# Altium footprint library PcbLib1.PcbLib: 202 footprints (part 7 of 13)
Each footprint in its own frame and in the unit in brackets; x right, y up, seen from the top. Pads: shape width x height; smd on the part's side, far side on the other; paste and mask are expansions set on the pad; w line width, h text height; cw(c..) or ccw(c..) is an arc to the next point about the centre after c.
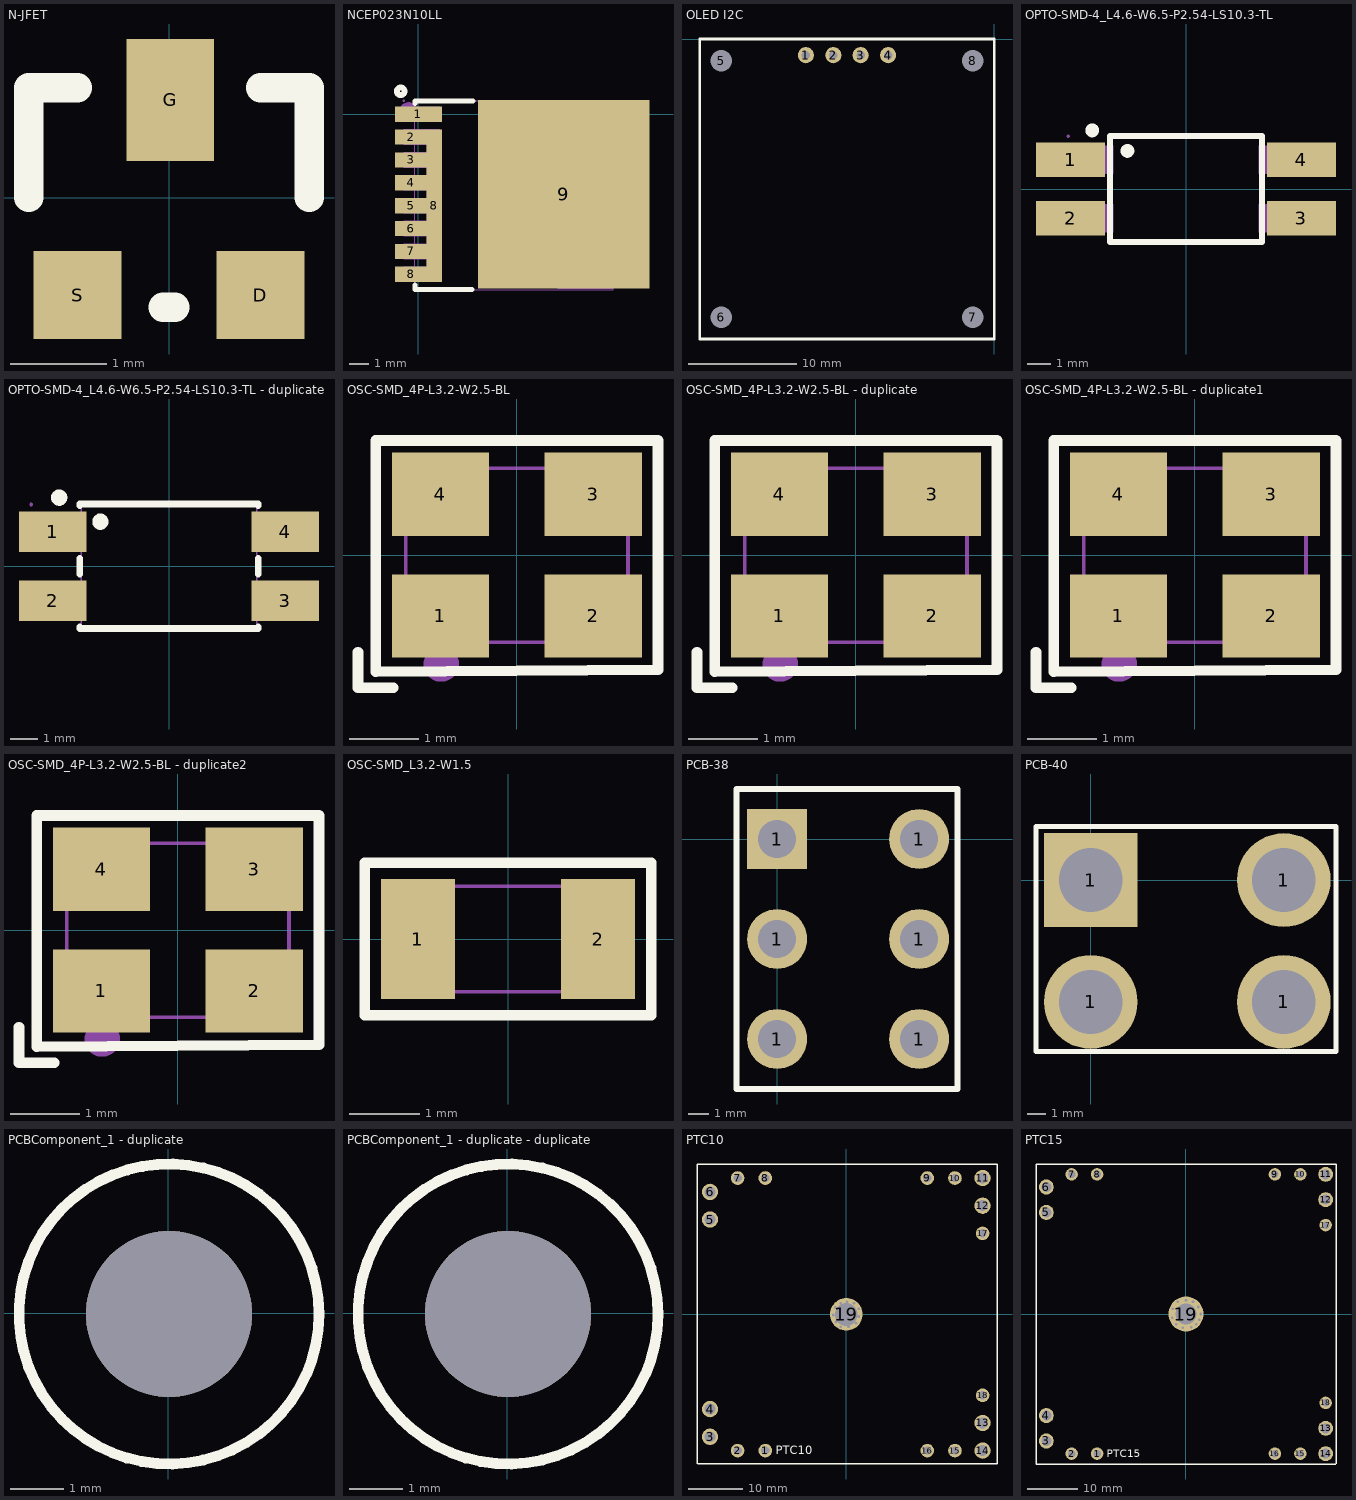
[diagram p6: the footprints below, top view; thin cyan lines are the x and y axes]

## N-JFET [mil]
pads (3):
  rect 36x36 smd: D(37.5,-40) S(-37.5,-40)
  rect 36x50 smd: G(0.5,40)
Top Overlay:
  lines w12: -57.5,0 -57.5,45 -37.5,45 ; -2.5,-45 2.5,-45 ; 37.5,45 57.5,45 57.5,0

## NCEP023N10LL [mm]
pads (10):
  rect 2.463x0.8 smd mask+0.051: 1(0,0)
  rect 1.7x0.8 smd mask+0.051: 2(-0.38,-1.2) 3(-0.38,-2.4) 4(-0.38,-3.6) 5(-0.38,-4.8) 6(-0.38,-6) 7(-0.38,-7.2) 8(-0.38,-8.4)
  rect 0.8x8 smd mask+0.051: 8(0.832,-4.8)
  rect 9x9.9 smd mask+0.051: 9(7.619,-4.2)
Top Overlay:
  circle w0.3: c-0.93,1.2 r0.2
  lines w0.254: -0.18,-8.95 -0.18,-9.2 2.82,-9.2 ; -0.18,0.55 -0.18,0.7 2.87,0.7
Top Paste:
  region: -1.23,-0.8 1.231,-0.8 1.231,-8.8 -1.23,-8.8 -1.23,-8 0.433,-8 0.433,-7.6 -1.23,-7.6 -1.23,-6.8 0.431,-6.8 0.431,-6.4 -1.23,-6.4 -1.23,-5.6 0.433,-5.6 0.433,-5.2 -1.23,-5.2 -1.23,-4.401 -1.23,-4.4 0.433,-4.4 0.433,-4 -1.229,-4 -1.23,-3.999 -1.23,-3.2 0.433,-3.2 0.433,-2.8 -1.23,-2.8 -1.23,-2 0.433,-2 0.434,-2.001 0.434,-1.602 0.431,-1.6 -1.23,-1.6
  region: 12.12,0.75 12.12,-9.15 3.12,-9.15 3.12,0.75
  region: -1.23,0.4 1.22,0.4 1.22,-0.4 -1.23,-0.4
Mechanical 6:
  circle w0.5: c-0.51,0.126 r0.25
Mechanical 15:
  region: 10.91,-9.1 10.91,-7.95 10.61,-7.95 10.61,-4.85 10.91,-4.85 10.91,-3.55 10.61,-3.55 10.61,-0.45 10.91,-0.45 10.91,0.7 7.31,0.7 7.31,0.35 4.01,0.35 4.01,-8.75 7.31,-8.75 7.31,-9.15 10.21,-9.15 10.21,-9.1
  region: 0.432,-0.8 1.132,-0.8 1.132,-8.8 0.432,-8.8
  region: -0.768,-1.6 -0.768,-0.8 0.432,-0.8 0.432,-1.6
  region: -0.768,-2.8 -0.768,-2 0.432,-2 0.432,-2.8
  region: -0.768,-5.2 -0.768,-4.4 0.432,-4.4 0.432,-5.2
  region: -0.768,-4 -0.768,-3.2 0.432,-3.2 0.432,-4
  region: -0.768,-6.4 -0.768,-5.6 0.432,-5.6 0.432,-6.4
  region: -0.768,-7.6 -0.768,-6.8 0.432,-6.8 0.432,-7.6
  region: -0.768,-8.8 -0.768,-8 0.432,-8 0.432,-8.8
  region: -0.768,-0.4 -0.768,0.4 1.132,0.4 1.132,-0.4
  region: -0.708,0.7 -0.708,0.725 -0.744,0.76 -0.793,0.76 -0.828,0.725 -0.828,0.7 -0.828,0.675 -0.793,0.64 -0.744,0.64 -0.708,0.675
  lines w0.051: -0.18,-9.205 -0.18,0.696 10.22,0.696 10.22,-9.205 -0.18,-9.205

## OLED I2C [mm]
height 13
pads (8):
  round 1.5 hole 0.8: 1(-17.46,-1.5) 2(-14.92,-1.5) 3(-12.38,-1.5) 4(-9.84,-1.5)
  round 1.5 hole 2: 5(-25.3,-2) 6(-25.3,-25.8) 7(-2,-25.8) 8(-2,-2)
Top Overlay:
  lines w0.254: -27.3,-27.8 -27.3,0 0,0 0,-27.8 -27.3,-27.8

## OPTO-SMD-4_L4.6-W6.5-P2.54-LS10.3-TL [mm]
pads (4):
  rect 3x1.5 smd: 1(-5,1.27) 2(-5,-1.27) 3(5,-1.27) 4(5,1.27)
Top Overlay:
  circle w0.3: c-2.54,1.651 r0.15
  circle w0.3: c-4.064,2.54 r0.15
  lines w0.254: -3.3,-2.3 -3.3,2.3 3.3,2.3 3.3,-2.3 -3.3,-2.3
Mechanical 6:
  circle w0.6: c-4.572,1.27 r0.3
Mechanical 15:
  region: -3.15,-0.67 -3.15,-1.87 -4.11,-1.87 -4.11,-0.67
  region: -3.15,1.87 -3.15,0.67 -4.11,0.67 -4.11,1.87
  region: 3.15,-1.87 3.15,-0.67 4.11,-0.67 4.11,-1.87
  region: -4.1,-0.67 -4.1,-1.87 -5.1,-1.87 -5.1,-0.67
  region: -4.1,1.87 -4.1,0.67 -5.1,0.67 -5.1,1.87
  region: 3.15,0.67 3.15,1.87 4.11,1.87 4.11,0.67
  region: 4.1,0.67 4.1,1.87 5.1,1.87 5.1,0.67
  region: 4.1,-1.87 4.1,-0.67 5.1,-0.67 5.1,-1.87
  region: -5.04,2.29 -5.04,2.315 -5.075,2.35 -5.125,2.35 -5.16,2.315 -5.16,2.29 -5.16,2.265 -5.125,2.23 -5.075,2.23 -5.04,2.265
  lines w0.051: -3.25,-2.29 -3.25,2.29 3.25,2.29 3.25,-2.29 -3.25,-2.29

## OPTO-SMD-4_L4.6-W6.5-P2.54-LS10.3-TL - duplicate [mm]
pads (4):
  rect 2.5x1.5 smd: 1(-4.3,1.27) 2(-4.3,-1.27) 3(4.3,-1.27) 4(4.3,1.27)
Top Overlay:
  circle w0.3: c-4.064,2.54 r0.15
  circle w0.3: c-2.54,1.651 r0.15
  lines w0.254: -3.3,-2.251 -3.3,-2.3 3.3,-2.3 3.3,-2.251 ; -3.3,-0.289 -3.3,0.289 ; -3.3,2.251 -3.3,2.3 3.3,2.3 3.3,2.251 ; 3.3,-0.289 3.3,0.289
Mechanical 6:
  circle w0.6: c-4.572,1.27 r0.3
Mechanical 15:
  region: -5.04,2.29 -5.04,2.315 -5.075,2.35 -5.125,2.35 -5.16,2.315 -5.16,2.29 -5.16,2.265 -5.125,2.23 -5.075,2.23 -5.04,2.265
  region: 4.1,-1.87 4.1,-0.67 5.1,-0.67 5.1,-1.87
  region: 4.1,0.67 4.1,1.87 5.1,1.87 5.1,0.67
  region: 3.15,0.67 3.15,1.87 4.11,1.87 4.11,0.67
  region: -4.1,1.87 -4.1,0.67 -5.1,0.67 -5.1,1.87
  region: -4.1,-0.67 -4.1,-1.87 -5.1,-1.87 -5.1,-0.67
  region: 3.15,-1.87 3.15,-0.67 4.11,-0.67 4.11,-1.87
  region: -3.15,1.87 -3.15,0.67 -4.11,0.67 -4.11,1.87
  region: -3.15,-0.67 -3.15,-1.87 -4.11,-1.87 -4.11,-0.67
  lines w0.051: -3.25,-2.29 3.25,-2.29 3.25,2.29 -3.25,2.29 -3.25,-2.29

## OSC-SMD_4P-L3.2-W2.5-BL [mm]
pads (4):
  rect 1.4x1.2 smd: 1(-1.1,-0.875) 2(1.1,-0.875) 3(1.1,0.875) 4(-1.1,0.875)
Top Overlay:
  lines w0.152: -2.286,-1.397 -2.286,-1.905 -1.778,-1.905 ; -2.029,-1.679 2.032,-1.651 2.032,0 2.032,1.651 -2.029,1.651 -2.029,-1.679
Mechanical 6:
  circle w0.254: c-1.088,-1.567 r0.127
  region: -1.738,-0.536 -1.702,-0.536 -1.702,-0.608 -1.738,-0.608
  region: -1.702,-0.536 -1.666,-0.536 -1.666,-0.608 -1.702,-0.608
  region: -1.666,-0.5 -1.63,-0.5 -1.63,-0.608 -1.666,-0.608
  region: -1.63,-0.464 -1.594,-0.464 -1.594,-0.572 -1.63,-0.572
  region: -1.594,-0.464 -1.558,-0.464 -1.558,-1.004 -1.594,-1.004
  region: -1.558,-0.428 -1.522,-0.428 -1.522,-1.004 -1.558,-1.004
  region: -1.522,-0.428 -1.486,-0.428 -1.486,-1.004 -1.522,-1.004
  region: -1.486,-0.428 -1.45,-0.428 -1.45,-1.004 -1.486,-1.004
Mechanical 15:
  region: 0.6,-0.449 1.5,-0.449 1.5,-1.249 0.6,-1.249
  region: -1.5,-0.449 -0.6,-0.449 -0.6,-1.249 -1.5,-1.249
  region: -1.5,1.249 -0.6,1.249 -0.6,0.449 -1.5,0.449
  region: 0.6,1.249 1.5,1.249 1.5,0.449 0.6,0.449
  region: -1.54,-1.25 -1.54,-1.225 -1.575,-1.191 -1.624,-1.191 -1.659,-1.225 -1.66,-1.25 -1.659,-1.274 -1.624,-1.309 -1.576,-1.309 -1.541,-1.274
  lines w0.051: -1.6,-1.25 1.6,-1.25 1.6,1.25 -1.6,1.25 -1.6,-1.25

## OSC-SMD_4P-L3.2-W2.5-BL - duplicate [mm]
pads (4):
  rect 1.4x1.2 smd: 1(-1.1,-0.875) 2(1.1,-0.875) 3(1.1,0.875) 4(-1.1,0.875)
Top Overlay:
  lines w0.152: -2.286,-1.397 -2.286,-1.905 -1.778,-1.905 ; -2.029,-1.679 -2.029,1.651 2.032,1.651 2.032,0 2.032,-1.651 -2.029,-1.679
Mechanical 6:
  circle w0.254: c-1.088,-1.567 r0.127
  region: -1.486,-0.428 -1.45,-0.428 -1.45,-1.004 -1.486,-1.004
  region: -1.522,-0.428 -1.486,-0.428 -1.486,-1.004 -1.522,-1.004
  region: -1.558,-0.428 -1.522,-0.428 -1.522,-1.004 -1.558,-1.004
  region: -1.594,-0.464 -1.558,-0.464 -1.558,-1.004 -1.594,-1.004
  region: -1.63,-0.464 -1.594,-0.464 -1.594,-0.572 -1.63,-0.572
  region: -1.666,-0.5 -1.63,-0.5 -1.63,-0.608 -1.666,-0.608
  region: -1.702,-0.536 -1.666,-0.536 -1.666,-0.608 -1.702,-0.608
  region: -1.738,-0.536 -1.702,-0.536 -1.702,-0.608 -1.738,-0.608
Mechanical 15:
  region: -1.54,-1.25 -1.54,-1.225 -1.575,-1.191 -1.624,-1.191 -1.659,-1.225 -1.66,-1.25 -1.659,-1.274 -1.624,-1.309 -1.576,-1.309 -1.541,-1.274
  region: 0.6,1.249 1.5,1.249 1.5,0.449 0.6,0.449
  region: -1.5,1.249 -0.6,1.249 -0.6,0.449 -1.5,0.449
  region: -1.5,-0.449 -0.6,-0.449 -0.6,-1.249 -1.5,-1.249
  region: 0.6,-0.449 1.5,-0.449 1.5,-1.249 0.6,-1.249
  lines w0.051: -1.6,-1.25 -1.6,1.25 1.6,1.25 1.6,-1.25 -1.6,-1.25

## OSC-SMD_4P-L3.2-W2.5-BL - duplicate1 [mm]
pads (4):
  rect 1.4x1.2 smd: 1(-1.1,-0.875) 2(1.1,-0.875) 3(1.1,0.875) 4(-1.1,0.875)
Top Overlay:
  lines w0.152: -2.286,-1.397 -2.286,-1.905 -1.778,-1.905 ; -2.029,-1.679 2.032,-1.651 2.032,0 2.032,1.651 -2.029,1.651 -2.029,-1.679
Mechanical 6:
  circle w0.254: c-1.088,-1.567 r0.127
  region: -1.206,1.206 -1.206,0.572 -1.079,0.572 -1.079,1.206
  region: -1.46,0.953 -0.699,0.953 -0.699,0.826 -1.46,0.826
  region: -1.738,-0.536 -1.702,-0.536 -1.702,-0.608 -1.738,-0.608
  region: -1.702,-0.536 -1.666,-0.536 -1.666,-0.608 -1.702,-0.608
  region: -1.666,-0.5 -1.63,-0.5 -1.63,-0.608 -1.666,-0.608
  region: -1.63,-0.464 -1.594,-0.464 -1.594,-0.572 -1.63,-0.572
  region: -1.594,-0.464 -1.558,-0.464 -1.558,-1.004 -1.594,-1.004
  region: -1.558,-0.428 -1.522,-0.428 -1.522,-1.004 -1.558,-1.004
  region: -1.522,-0.428 -1.486,-0.428 -1.486,-1.004 -1.522,-1.004
  region: -1.486,-0.428 -1.45,-0.428 -1.45,-1.004 -1.486,-1.004
Mechanical 15:
  region: 0.6,-0.449 1.5,-0.449 1.5,-1.249 0.6,-1.249
  region: -1.5,-0.449 -0.6,-0.449 -0.6,-1.249 -1.5,-1.249
  region: -1.5,1.249 -0.6,1.249 -0.6,0.449 -1.5,0.449
  region: 0.6,1.249 1.5,1.249 1.5,0.449 0.6,0.449
  region: -1.54,-1.25 -1.54,-1.225 -1.575,-1.191 -1.624,-1.191 -1.659,-1.225 -1.66,-1.25 -1.659,-1.274 -1.624,-1.309 -1.576,-1.309 -1.541,-1.274
  lines w0.051: -1.6,-1.25 1.6,-1.25 1.6,1.25 -1.6,1.25 -1.6,-1.25

## OSC-SMD_4P-L3.2-W2.5-BL - duplicate2 [mm]
pads (4):
  rect 1.4x1.2 smd: 1(-1.1,-0.875) 2(1.1,-0.875) 3(1.1,0.875) 4(-1.1,0.875)
Top Overlay:
  lines w0.152: -2.286,-1.397 -2.286,-1.905 -1.778,-1.905 ; -2.029,-1.679 2.032,-1.651 2.032,0 2.032,1.651 -2.029,1.651 -2.029,-1.679
Mechanical 6:
  circle w0.254: c-1.088,-1.567 r0.127
  region: -1.206,1.206 -1.206,0.572 -1.079,0.572 -1.079,1.206
  region: -1.46,0.953 -0.699,0.953 -0.699,0.826 -1.46,0.826
  region: -1.738,-0.536 -1.702,-0.536 -1.702,-0.608 -1.738,-0.608
  region: -1.702,-0.536 -1.666,-0.536 -1.666,-0.608 -1.702,-0.608
  region: -1.666,-0.5 -1.63,-0.5 -1.63,-0.608 -1.666,-0.608
  region: -1.63,-0.464 -1.594,-0.464 -1.594,-0.572 -1.63,-0.572
  region: -1.594,-0.464 -1.558,-0.464 -1.558,-1.004 -1.594,-1.004
  region: -1.558,-0.428 -1.522,-0.428 -1.522,-1.004 -1.558,-1.004
  region: -1.522,-0.428 -1.486,-0.428 -1.486,-1.004 -1.522,-1.004
  region: -1.486,-0.428 -1.45,-0.428 -1.45,-1.004 -1.486,-1.004
Mechanical 15:
  region: 0.6,-0.449 1.5,-0.449 1.5,-1.249 0.6,-1.249
  region: -1.5,-0.449 -0.6,-0.449 -0.6,-1.249 -1.5,-1.249
  region: -1.5,1.249 -0.6,1.249 -0.6,0.449 -1.5,0.449
  region: 0.6,1.249 1.5,1.249 1.5,0.449 0.6,0.449
  region: -1.54,-1.25 -1.54,-1.225 -1.575,-1.191 -1.624,-1.191 -1.659,-1.225 -1.66,-1.25 -1.659,-1.274 -1.624,-1.309 -1.576,-1.309 -1.541,-1.274
  lines w0.051: -1.6,-1.25 1.6,-1.25 1.6,1.25 -1.6,1.25 -1.6,-1.25

## OSC-SMD_L3.2-W1.5 [mm]
pads (2):
  rect 1.05x1.7 smd: 1(-1.275,0) 2(1.275,0)
Top Overlay:
  lines w0.152: -2.029,-1.079 2.029,-1.079 2.029,1.079 -2.029,1.079 -2.029,-1.079
Mechanical 15:
  region: 0.85,-0.75 0.85,0.75 1.5,0.75 1.5,-0.75
  region: -0.85,-0.75 -0.85,0.75 -1.5,0.75 -1.5,-0.75
  region: -1.54,-0.75 -1.541,-0.726 -1.576,-0.693 -1.624,-0.693 -1.659,-0.726 -1.66,-0.75 -1.659,-0.774 -1.624,-0.807 -1.576,-0.807 -1.541,-0.774
  lines w0.051: -1.6,-0.75 1.6,-0.75 1.6,0.75 -1.6,0.75 -1.6,-0.75

## PCB-38 [mm]
pads (6):
  round 3 hole 1.9: 1(0,-10) 1(0,-5) 1(7.1,-10) 1(7.1,-5) 1(7.1,0)
  rect 3x3 hole 1.9: 1(0,0)
Top Overlay:
  lines w0.3: -2.032,-12.5 -2.032,2.5 3.937,2.5 9.017,2.5 9.017,-12.5 -2.032,-12.5

## PCB-40 [mm]
pads (4):
  round 5 hole 3.4: 1(0,-6.5) 1(10.3,-6.5) 1(10.3,0)
  rect 5x5 hole 3.4: 1(0,0)
Top Overlay:
  lines w0.254: -2.919,-9.144 13.081,-9.144 13.081,2.856 -2.919,2.856 -2.919,-9.144

## PCBComponent_1 - duplicate [mm]
pads (1):
  round 3.1 hole 3.1 unplated paste-2539.97: ""(0.011,-0.01)
Top Overlay:
  lines w0.2: 2.81,-0.017 cw(c0.01,-0.01) 2.81,-0.01
Bottom Overlay:
  lines w0.2: 2.81,-0.017 cw(c0.01,-0.01) 2.81,-0.01

## PCBComponent_1 - duplicate - duplicate [mm]
pads (1):
  round 3.1 hole 3.1 unplated paste-2539.97: ""(0.011,-0.01)
Top Overlay:
  lines w0.2: 2.81,-0.017 cw(c0.01,-0.01) 2.81,-0.01
Bottom Overlay:
  lines w0.2: 2.81,-0.017 cw(c0.01,-0.01) 2.81,-0.01

## PTC10 [mm]
pads (19):
  round 2.5 hole 1.5: 1(-14.88,-25.04) 2(-19.96,-25.04) 7(-19.96,25.04) 8(-14.88,25.04) 9(14.88,25.04) 10(19.96,25.04) 15(19.96,-25.04) 16(14.88,-25.04) 17(25.04,14.88) 18(25.04,-14.88)
  round 3 hole 2: 3(-25.04,-22.5) 4(-25.04,-17.42) 5(-25.04,17.42) 6(-25.04,22.5) 11(25.04,25.04) 12(25.04,19.96) 13(25.04,-19.96) 14(25.04,-25.04)
  round 6 hole 4.2: 19(0,0)
via -1.016,2.032 diameter 1.016 hole 0.508
via -2.032,1.27 diameter 1.016 hole 0.508
via -2.413,-0.127 diameter 1.016 hole 0.508
via -1.905,-1.397 diameter 1.016 hole 0.508
via -1.016,-2.286 diameter 1.016 hole 0.508
via 0.381,-2.286 diameter 1.016 hole 0.508
via 1.778,-1.651 diameter 1.016 hole 0.508
via 2.286,-0.381 diameter 1.016 hole 0.508
via 2.286,1.016 diameter 1.016 hole 0.508
via 1.397,2.032 diameter 1.016 hole 0.508
via 0.127,2.286 diameter 1.016 hole 0.508
Top Overlay:
  lines w0.254: -27.432,-27.441 -27.432,27.559 27.686,27.559 27.686,-27.441 -27.314,-27.441
  text "PTC10" at -12.947,-25.703 h1.52

## PTC15 [mm]
pads (19):
  round 2.5 hole 1.5: 1(-17.78,-27.94) 2(-22.86,-27.94) 7(-22.86,27.94) 8(-17.78,27.94) 9(17.78,27.94) 10(22.86,27.94) 15(22.86,-27.94) 16(17.78,-27.94) 17(27.94,17.78) 18(27.94,-17.78)
  round 3 hole 2: 3(-27.94,-25.4) 4(-27.94,-20.32) 5(-27.94,20.32) 6(-27.94,25.4) 11(27.94,27.94) 12(27.94,22.86) 13(27.94,-22.86) 14(27.94,-27.94)
  round 7 hole 4.2: 19(0,0)
via 0,2.794 diameter 1.016 hole 0.508
via 1.397,2.413 diameter 1.016 hole 0.508
via 2.413,1.397 diameter 1.016 hole 0.508
via 2.921,0 diameter 1.016 hole 0.508
via 2.667,-1.143 diameter 1.016 hole 0.508
via 2.032,-2.032 diameter 1.016 hole 0.508
via 1.016,-2.667 diameter 1.016 hole 0.508
via -0.635,-2.794 diameter 1.016 hole 0.508
via -1.905,-2.032 diameter 1.016 hole 0.508
via -2.794,-0.762 diameter 1.016 hole 0.508
via -2.667,1.016 diameter 1.016 hole 0.508
via -1.651,2.413 diameter 1.016 hole 0.508
Top Overlay:
  lines w0.254: -30,-30 30,-30 30,30 -30,30 -30,-30
  text "PTC15" at -15.847,-28.603 h1.52